# EAGLE library part MICROSD-1010030368 (library awqua_eagle_library)
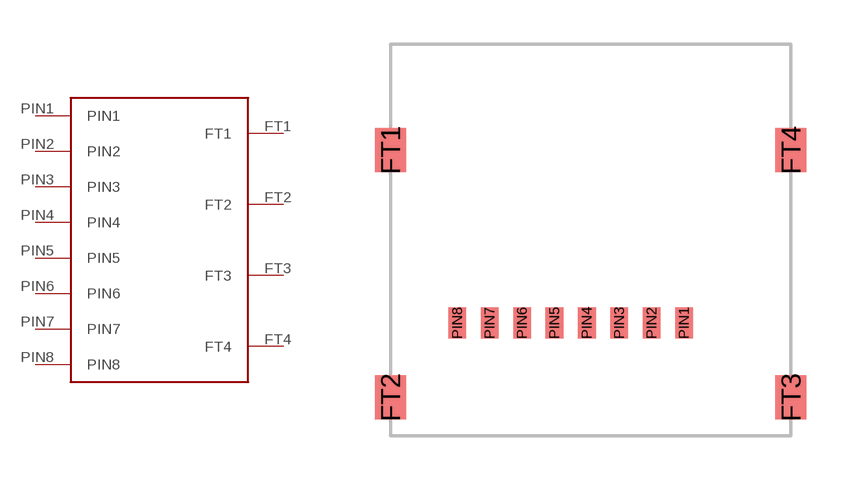
[diagram p4: symbol with the pads of MICROSD-1010030368; footprint MICROSD-1010030368]

Designator prefix -

## MICROSD-1010030368  [MICROSD-1010030368]
FT1  FT1
FT2  FT2
FT3  FT3
FT4  FT4
PIN1  PIN1
PIN2  PIN2
PIN3  PIN3
PIN4  PIN4
PIN5  PIN5
PIN6  PIN6
PIN7  PIN7
PIN8  PIN8

## Footprint MICROSD-1010030368 (pad centres in mm)
smd 1.05 x 1.5: FT1 0,8.4; FT2 0,0; FT3 13.6,0; FT4 13.6,8.4
smd 0.6 x 1.05: PIN1 9.97,2.53; PIN2 8.87,2.53; PIN3 7.77,2.53; PIN4 6.67,2.53; PIN5 5.57,2.53; PIN6 4.47,2.53; PIN7 3.37,2.53; PIN8 2.27,2.53